# Altium schematic symbol library FPAA_minidev.SchLib: 7 symbols
Pins are listed as number, name and electrical type; pins without a type are passive.

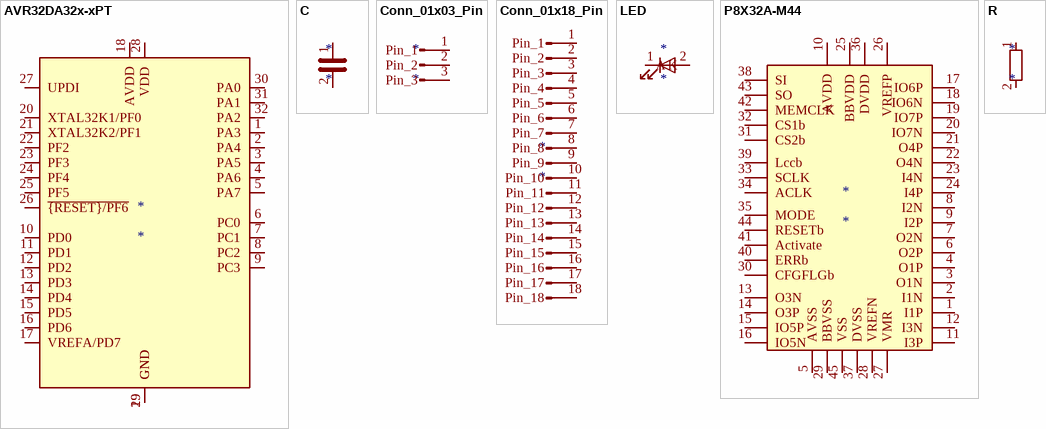
[diagram p0: symbols AVR32DA32x-xPT to R]

## AVR32DA32x-xPT
designator *
pins: 1 PA3, 2 PA4, 3 PA5, 4 PA6, 5 PA7, 6 PC0, 7 PC1, 8 PC2, 9 PC3, 10 PD0, 11 PD1, 12 PD2, 13 PD3, 14 PD4, 15 PD5, 16 PD6, 17 VREFA/PD7, 18 AVDD, 19 GND, 20 XTAL32K1/PF0, 21 XTAL32K2/PF1, 22 PF2, 23 PF3, 24 PF4, 25 PF5, 26 ~{{RESET}/PF6}, 27 UPDI, 28 VDD, 29 GND, 30 PA0, 31 PA1, 32 PA2

## C
designator *
pins: 1, 2

## Conn_01x03_Pin
designator *
pins: 1 Pin_1, 2 Pin_2, 3 Pin_3

## Conn_01x18_Pin
designator *
pins: 1 Pin_1, 2 Pin_2, 3 Pin_3, 4 Pin_4, 5 Pin_5, 6 Pin_6, 7 Pin_7, 8 Pin_8, 9 Pin_9, 10 Pin_10, 11 Pin_11, 12 Pin_12, 13 Pin_13, 14 Pin_14, 15 Pin_15, 16 Pin_16, 17 Pin_17, 18 Pin_18

## LED
designator *
pins: 1 K, 2 A

## P8X32A-M44
designator *
pins: 1 I1P, 2 I1N, 3 O1N, 4 O1P, 5 AVSS, 6 O2P, 7 O2N, 8 I2N, 9 I2P, 10 AVDD, 11 I3P, 12 I3N, 13 O3N, 14 O3P, 15 IO5P, 16 IO5N, 17 IO6P, 18 IO6N, 19 IO7P, 20 IO7N, 21 O4P, 22 O4N, 23 I4N, 24 I4P, 25 BBVDD, 26 VREFP, 27 VMR, 28 VREFN, 29 BBVSS, 30 CFGFLGb, 31 CS2b, 32 CS1b, 33 SCLK, 34 ACLK, 35 MODE, 36 DVDD, 37 DVSS, 38 SI, 39 Lccb, 40 ERRb, 41 Activate, 42 MEMCLK, 43 SO, 44 RESETb, 45 VSS

## R
designator *
pins: 1, 2